# EAGLE library part TPS62160 (library MinotaurParts)
adjustable switching regulator for the 3.3 volt and 5 volt rails
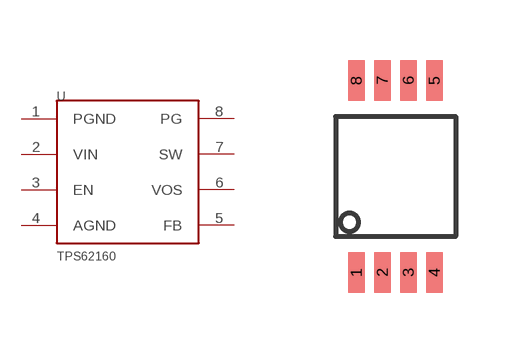
[diagram p7: symbol with the pads of MSOP-8; footprint MSOP-8]

Designator prefix -

## TPS62160  [MSOP-8]
1  PGND
2  VIN
3  EN
4  AGND
5  FB
6  VOS
7  SW
8  PG

## Footprint MSOP-8 (pad centres in mm)
smd 0.41 x 1.02: 1 -0.975,-2.4; 2 -0.325,-2.4; 3 0.325,-2.4; 4 0.975,-2.4; 5 0.975,2.4; 6 0.325,2.4; 7 -0.325,2.4; 8 -0.975,2.4